# Altium schematic symbol library MT3608.SchLib: 1 symbol
Pins are listed as number, name and electrical type; pins without a type are passive.

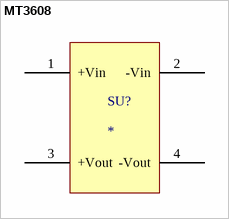
[diagram p0: symbol MT3608]

## MT3608
designator SU?
MT3608 step up converter
footprint PCBComponent_1
pins: 1 +Vin, 2 -Vin, 3 +Vout, 4 -Vout